# EAGLE library part 805-307/000-012 (library con-wago_805)
Serie 805, Stand: 01.01.2012. Die jeweils aktuellen Daten zu diesem Artikel finden Sie in unserem Produktkatalog, den Sie unter www.wago.com einsehen können. As of: 01/01/2012. Please find the newest data for this article in our product catalogue, which can be viewed under www.wago.com.
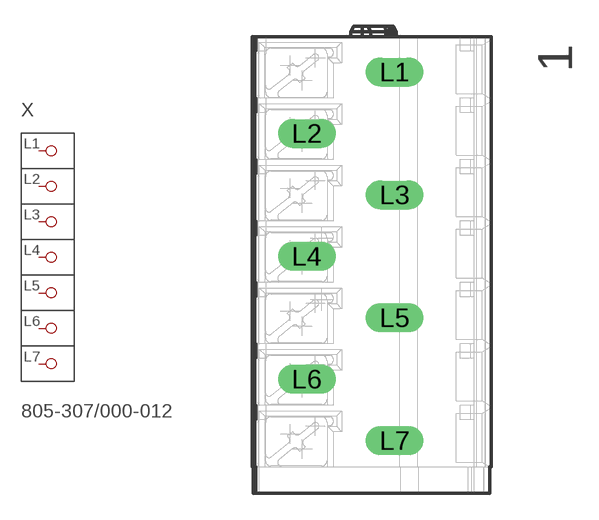
[diagram p96: symbol with the pads of P-805-307; footprint P-805-307]

Designator prefix X

## 805-307/000-012  [P-805-307]
L1  P1
L2  P2
L3  P3
L4  P4
L5  P5
L6  P6
L7  P7

## Footprint P-805-307 (pad centres in mm)
drill 1.1 long: L1 1.3,10.7; L2 -3.7,7.2; L3 1.3,3.7; L4 -3.7,0.2; L5 1.3,-3.3; L6 -3.7,-6.8; L7 1.3,-10.3